# EAGLE library part 691317710008 (library Wuerth_Elektronik_eiCan_Terminal_Blocks_v2.0)
WR-TBL Serie 3177 - 5.0mm Close Horizontal PCB Header with Flanges , 8 Pins
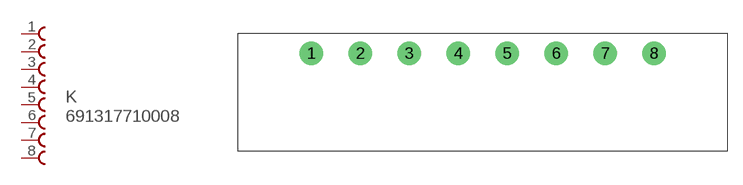
[diagram p71: symbol with the pads of 691317710008; footprint 691317710008]

Designator prefix K

## 691317710008  [691317710008]
1  1  pas
2  2  pas
3  3  pas
4  4  pas
5  5  pas
6  6  pas
7  7  pas
8  8  pas

## Footprint 691317710008 (pad centres in mm)
WR-TBL Serie 3177 - 5.0mm Close Horizontal PCB Header with Flanges , 8 Pins
drill 1.6 round: 1 -20,0; 2 -15,0; 3 -10,0; 4 -5,0; 5 0,0; 6 5,0; 7 10,0; 8 15,0